# EAGLE library part TO-5050BC-MRPBFGF (library Kunosheru)
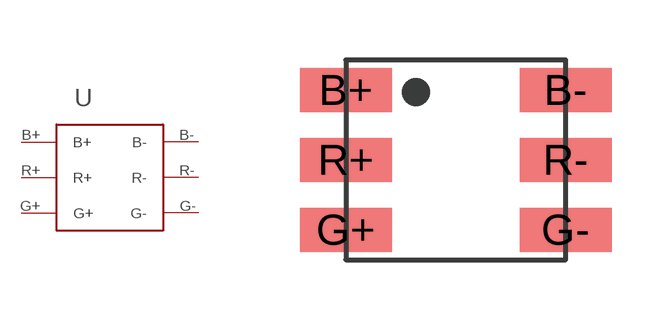
[diagram p11: symbol with the pads of TO-5050BC-MRPBFGF; footprint TO-5050BC-MRPBFGF]

Designator prefix -

## TO-5050BC-MRPBFGF  [TO-5050BC-MRPBFGF]
B+  B+
B-  B-
G+  G+
G-  G-
R+  R+
R-  R-

## Footprint TO-5050BC-MRPBFGF (pad centres in mm)
smd 2.3 x 1.1: B+ -2.75,1.75; B- 2.75,1.75; G+ -2.75,-1.75; G- 2.75,-1.75; R+ -2.75,0; R- 2.75,0